# Altium schematic symbol library Battery-Management.SchLib: 2 symbols
Pins are listed as number, name and electrical type; pins without a type are passive.

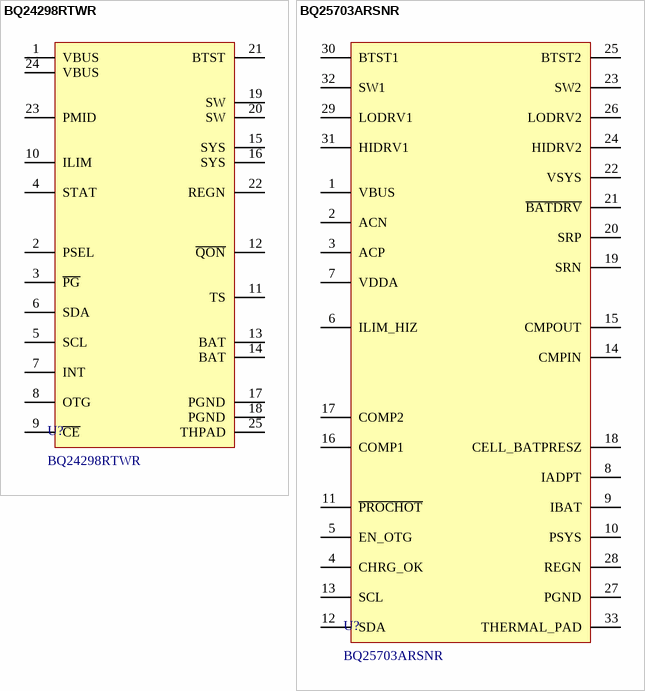
[diagram p0: symbols BQ24298RTWR to BQ25703ARSNR]

## BQ24298RTWR
designator U?
IC BATT CHG LI-ION 1CELL 24WQFN; Manufacturer: Texas Instruments; Package Body Material: Plastic; Adjustable Threshold: Yes; Throw Configuration: POWER SUPPLY MANAGEMENT CIRCUIT; Number of Channels: 1; Max Supply Voltage: 6.2V; Min Supply Voltage: 3.9V; Supplier: Digikey; Supplier Part Number: 296-48491-1-ND; Manufacturer Part Number: BQ24298RTWR; RoHS: Yes; Category: Battery Management; Stock: 6109; Pricing: 1=1.75, 10=1.288, 25=1.1712, 100=1.043, 250=0.98184, 500=0.94496, 1000=0.91459 (USD); Case/Package: HVQCCN; Pins: 24; Package Shape: Square; Terminal Finish: Nickel; Min Operating Temperature: -40°C; Max Operating Temperature: 85°C; JESD-609 Code: e4; Moisture Sensitivity Level: 2; Channels: 1; Package Style: CHIP CARRIER, HEAT SINK/SLUG, VERY THIN PROFILEMeter; Surface Mount: Yes; Terminal Form: No Lead; Terminal Position: QUAD; Length: 4mm; Width: 4mm; Height - Seated (Max): 0.8mm; Terminal Pitch: 0.5mm; Temperature Grade: INDUSTRIAL; Reach SVHC Compliant: Yes; RoHS Compliant: Yes; ComponentLink1URL: https://www.ti.com:443/lit/ds/symlink/bq24298.pdf?src-supplier=IHS+Markit; ComponentLink1Description: https://www.ti.com:443/lit/ds/symlink/bq24298.pdf?src-supplier=IHS+Markit; ComponentLink2URL: http://www.ti.com/lit/ds/symlink/bq24298.pdf?src-supplier=Digikey; ComponentLink2Description: http://www.ti.com/lit/ds/symlink/bq24298.pdf?src-supplier=Digikey; ComponentLink3URL: http://www.ti.com/general/docs/lit/getliterature.tsp?genericPartNumber=BQ24298&&fileType=pdf&src-supplier=Avnet; ComponentLink3Description: http://www.ti.com/general/docs/lit/getliterature.tsp?genericPartNumber=BQ24298&&fileType=pdf&src-supplier=Avnet; ComponentLink4URL: http://www.ti.com/general/docs/suppproductinfo.tsp?distId=10&amp;gotoUrl=http%3A%2F%2Fwww.ti.com%2Flit%2Fgpn%2Fbq24298&src-supplier=Digikey; ComponentLink4Description: http://www.ti.com/general/docs/suppproductinfo.tsp?distId=10&amp;gotoUrl=http%3A%2F%2Fwww.ti.com%2Flit%2Fgpn%2Fbq24298&src-supplier=Digikey; ComponentLink5URL: http://www.ti.com/lit/gpn/bq24298?src-supplier=Mouser; ComponentLink5Description: http://www.ti.com/lit/gpn/bq24298?src-supplier=Mouser
footprint 24-WQFN
pins: 1 VBUS, 2 PSEL, 3 ~{PG}, 4 STAT, 5 SCL, 6 SDA, 7 INT, 8 OTG, 9 ~{CE}, 10 ILIM, 11 TS, 12 ~{QON}, 13 BAT, 14 BAT, 15 SYS, 16 SYS, 17 PGND, 18 PGND, 19 SW, 20 SW, 21 BTST, 22 REGN, 23 PMID, 24 VBUS, 25 THPAD

## BQ25703ARSNR
designator U?
IC BAT MON MULT-CHEM 1-4C 32WQFN; Manufacturer: Texas Instruments; Package Body Material: Plastic; Adjustable Threshold: No; Throw Configuration: POWER SUPPLY MANAGEMENT CIRCUIT; Number of Channels: 1; Max Supply Voltage: 26V; Min Supply Voltage: 3.5V; Nominal Supply Voltage: 5V; Supplier: Digikey; Supplier Part Number: 296-47649-1-ND; Manufacturer Part Number: BQ25703ARSNR; RoHS: Yes; Category: Battery Management; Stock: 5125; Pricing: 1=3.69, 10=2.785, 25=2.558, 100=2.308, 250=2.18876, 500=2.11692, 1000=2.05779 (USD); Case/Package: HVQCCN; Pins: 32; Package Shape: Square; Terminal Finish: Nickel; Min Operating Temperature: -40°C; Max Operating Temperature: 85°C; JESD-609 Code: e4; JESD-30 Code: S-PQCC-N32; Moisture Sensitivity Level: 2; Channels: 1; Package Style: CHIP CARRIER, HEAT SINK/SLUG, VERY THIN PROFILEMeter; Surface Mount: Yes; Terminal Form: No Lead; Terminal Position: QUAD; Length: 4mm; Width: 4mm; Height - Seated (Max): 0.8mm; Terminal Pitch: 0.4mm; Reach SVHC Compliant: Yes; RoHS Compliant: Yes; Temperature Grade: INDUSTRIAL; ComponentLink1URL: https://www.ti.com:443/lit/ds/symlink/bq25703a.pdf?src-supplier=IHS+Markit; ComponentLink1Description: https://www.ti.com:443/lit/ds/symlink/bq25703a.pdf?src-supplier=IHS+Markit; ComponentLink2URL: http://www.ti.com/general/docs/suppproductinfo.tsp?distId=10&amp;gotoUrl=http%3A%2F%2Fwww.ti.com%2Flit%2Fgpn%2Fbq25703a&src-supplier=Digikey; ComponentLink2Description: http://www.ti.com/general/docs/suppproductinfo.tsp?distId=10&amp;gotoUrl=http%3A%2F%2Fwww.ti.com%2Flit%2Fgpn%2Fbq25703a&src-supplier=Digikey; ComponentLink3URL: http://www.ti.com/lit/ds/symlink/bq25703a.pdf?src-supplier=Digikey; ComponentLink3Description: http://www.ti.com/lit/ds/symlink/bq25703a.pdf?src-supplier=Digikey
footprint 32-WFQFN
pins: 1 VBUS, 2 ACN, 3 ACP, 4 CHRG_OK, 5 EN_OTG, 6 ILIM_HIZ, 7 VDDA, 8 IADPT, 9 IBAT, 10 PSYS, 11 ~{PROCHOT}, 12 SDA, 13 SCL, 14 CMPIN, 15 CMPOUT, 16 COMP1, 17 COMP2, 18 CELL_BATPRESZ, 19 SRN, 20 SRP, 21 ~{BATDRV}, 22 VSYS, 23 SW2, 24 HIDRV2, 25 BTST2, 26 LODRV2, 27 PGND, 28 REGN, 29 LODRV1, 30 BTST1, 31 HIDRV1, 32 SW1, 33 THERMAL_PAD